# EAGLE library part RF-SHIELD:32-PINS-TO-AGND (library QuantumOptics)
RF Shield, 44 x 44 x 9.75mm, Laird Tech BMI-S-207-F, SMT, fits QFP160, don't forget BMI-S-207-C cover.
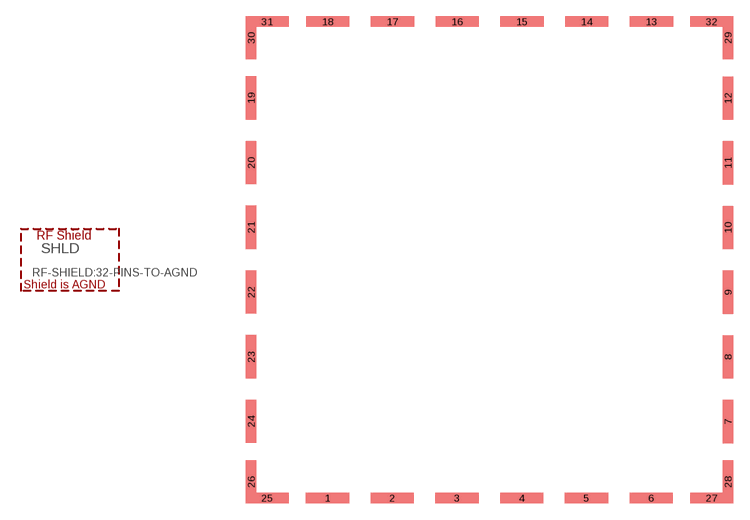
[diagram p138: symbol with the pads of RF-SHIELD:44X44X9.75MM(BMI-S-207-F); footprint RF-SHIELD:44X44X9.75MM(BMI-S-207-F)]

Designator prefix SHLD

## RF-SHIELD:32-PINS-TO-AGND44X44X9.75MM(BMI-S-207-F) (MFG: Larid Tech.)  [RF-SHIELD:44X44X9.75MM(BMI-S-207-F)]
1  AGND  pwr
2  AGND  pwr
3  AGND  pwr
4  AGND  pwr
5  AGND  pwr
6  AGND  pwr
7  AGND  pwr
8  AGND  pwr
9  AGND  pwr
10  AGND  pwr
11  AGND  pwr
12  AGND  pwr
13  AGND  pwr
14  AGND  pwr
15  AGND  pwr
16  AGND  pwr
17  AGND  pwr
18  AGND  pwr
19  AGND  pwr
20  AGND  pwr
21  AGND  pwr
22  AGND  pwr
23  AGND  pwr
24  AGND  pwr
25  AGND  pwr
26  AGND  pwr
27  AGND  pwr
28  AGND  pwr
29  AGND  pwr
30  AGND  pwr
31  AGND  pwr
32  AGND  pwr

## Footprint RF-SHIELD:44X44X9.75MM(BMI-S-207-F) (pad centres in mm)
RF Shield, 44 x 44 x 9.75mm, Laird Tech BMI-S-207-F, SMT, fits QFP160, http://media.digikey.com/pdf/Data%20Sheets/Laird%20Technologies/BMI-S-207.pdf and http://lairdtech.thomasnet.com/item/all-categories/standard-surface-mount-shields-two-piece/bmis-207?plpver=10&categid=100&prodid=3001092&origin=keyword#.
smd 4 x 1: 1 -15.01,-22.1; 2 -9.01,-22.1; 3 -3.01,-22.1; 4 2.99,-22.1; 5 8.99,-22.1; 6 14.99,-22.1; 13 15.01,22.1; 14 9.01,22.1; 15 3.01,22.1; 16 -2.99,22.1; 17 -8.99,22.1; 18 -14.99,22.1; 25 -20.6,-22.1; 27 20.6,-22.1; 31 -20.6,22.1; 32 20.6,22.1
smd 1 x 4: 7 22.1,-15.01; 8 22.1,-9.01; 9 22.1,-3.01; 10 22.1,2.99; 11 22.1,8.99; 12 22.1,14.99; 19 -22.1,15.01; 20 -22.1,9.01; 21 -22.1,3.01; 22 -22.1,-2.99; 23 -22.1,-8.99; 24 -22.1,-14.99; 26 -22.1,-20.6; 28 22.1,-20.6; 29 22.1,20.6; 30 -22.1,20.6